# Altium schematic symbol library C19268642.SchLib: 1 symbol
Pins are listed as number, name and electrical type; pins without a type are passive.

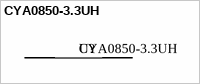
[diagram p0: symbol CYA0850-3.3UH]

## CYA0850-3.3UH
designator U?
10A 3.3uH ±20% 15A Molded inductor SMD,9.2x8mm Fixed Inductors
footprint IND-SMD_L9.2-W8.0 (10A 3.3uH ±20% 15A Molded inductor SMD,9.2x8mm Fixed Inductors)
pins: 1, 2